# EAGLE library part 74HC238 (library Public)
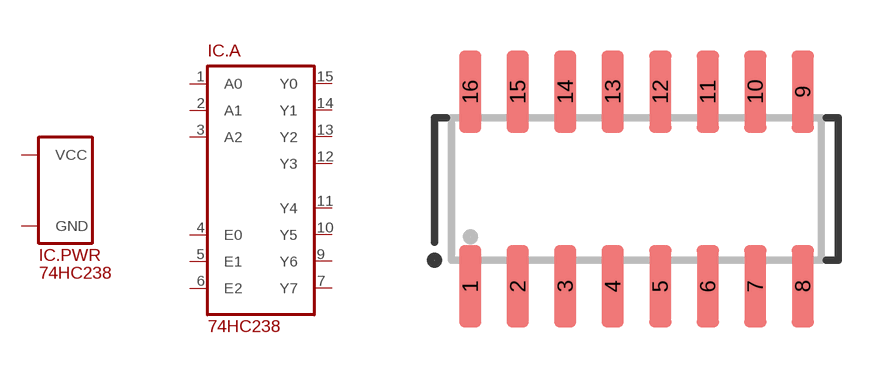
[diagram p79: symbol with the pads of SO16; footprint SO16]

Designator prefix IC; gates .PWR=SUPPLY_VCC/GND .A=74HC238

## 74HC238  [SO16]
1  .A:A0
2  .A:A1
3  .A:A2
4  .A:E0
5  .A:E1
6  .A:E2
7  .A:Y7
8  .PWR:GND
9  .A:Y6
10  .A:Y5
11  .A:Y4
12  .A:Y3
13  .A:Y2
14  .A:Y1
15  .A:Y0
16  .PWR:VCC

## Footprint SO16 (pad centres in mm)
smd 0.6 x 2.2: 1 -4.445,-2.6; 2 -3.175,-2.6; 3 -1.905,-2.6; 4 -0.635,-2.6; 5 0.635,-2.6; 6 1.905,-2.6; 7 3.175,-2.6; 8 4.445,-2.6; 9 4.445,2.6; 10 3.175,2.6; 11 1.905,2.6; 12 0.635,2.6; 13 -0.635,2.6; 14 -1.905,2.6; 15 -3.175,2.6; 16 -4.445,2.6